# Altium schematic symbol library DSC1101CI5-020.0000T.SchLib: 1 symbol
Pins are listed as number, name and electrical type; pins without a type are passive.

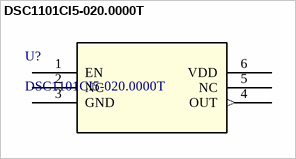
[diagram p0: symbol DSC1101CI5-020.0000T]

## DSC1101CI5-020.0000T
designator U?
No Description Available; Vendor: Microchip; Built_By: EMA_Jessica; SourceLibrary: Microchip_2019-08-23_23; Manufacturer_Part_Number: DSC1101CI5-020.0000T; Copyright: Copyright (C) 2018 Accelerated Designs. All rights reserved; RefDes: RefDes; Type: DEV
footprint VDFN6_3P2X2P5_MCH
pins: 1 EN, 2 NC, 3 GND, 4 OUT (out), 5 NC, 6 VDD (power)